# Altium schematic symbol library PBL - Capacitors.SCHLIB: 140 symbols (part 2 of 3)
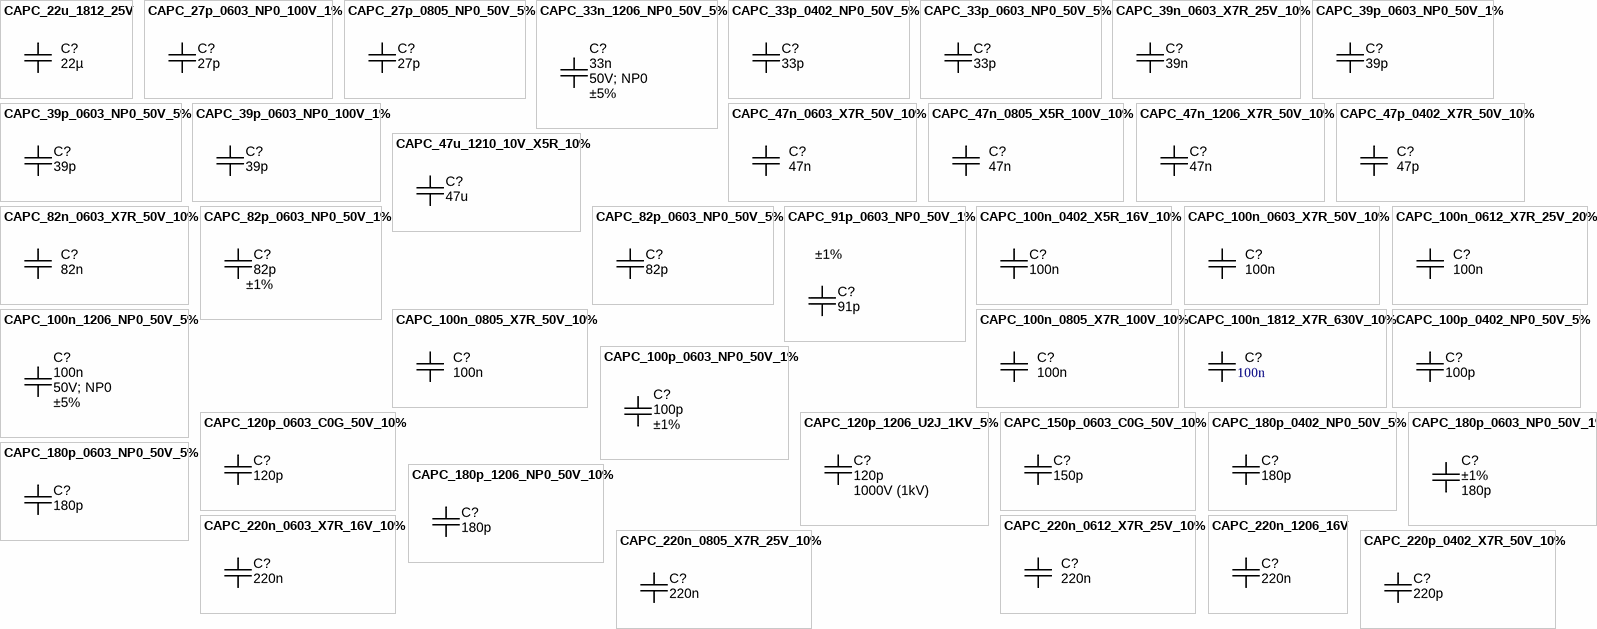
[diagram p4: symbols CAPC_22u_1812_25V to CAPC_220p_0402_X7R_50V_10%]

## CAPC_100n_0402_X5R_16V_10%
designator C?, comment 100n
Capacitor SMD Cer 100nF 10% 16V X5R 0402; Ratings: 16V; X5R; SCDType: spec; Tolerance: ±10%; Operating Temperature: -55°C ~ 125°C; Package / Case: 0402 (1005 Metric); Size / Dimension: 0.039" L x 0.020" W (1.00mm x 0.50mm); ComponentLink1URL: http://www.avx.com/docs/Catalogs/cx5r.pdf; ComponentLink1Description: http://www.avx.com/docs/Catalogs/cx5r.pdf; ComponentLink2URL: http://www.yageo.com/documents/recent/UPY-GPHC_X5R_4V-to-50V_12.pdf; ComponentLink2Description: http://www.yageo.com/documents/recent/UPY-GPHC_X5R_4V-to-50V_12.pdf; Supplier 1: Digi-Key; Supplier Part Number 1: 709-1129-1-ND; Value: 100n
footprint CAPC1005X55N (Chip Capacitor, Body 1.0x0.5mm, EIA 0402, IPC Medium Density)
pins: 1, 2

## CAPC_100n_0603_X7R_50V_10%
designator C?, comment value 100n  (hidden comment: approved sub OK)
Capacitor SMD Cer 100nF 10% 50V X7R 0603; Manufacturer: Murata Electronics North America; Manufacturer Part Number: GRM188R71H104KA93D; Tolerance: ±10%; Supplier 1: Digi-Key; Supplier Part Number 1: 490-1519-1-ND; RoHS: RoHS Compliant; Category: Capacitors; Stock 1: 21293840; Pricing 1: 1=0.12, 10=0.084, 100=0.0396, 500=0.02778, 1000=0.023 (USD); Packaging: Cut Tape (CT); Part Status: Active; Voltage - Rated: 50V; Temperature Coefficient: X7R; Operating Temperature: -55°C ~ 125°C; Features: -; Ratings: -; Applications: General Purpose; Mounting Type: Surface Mount, MLCC; Package / Case: 0603 (1608 Metric); Size / Dimension: 0.063" L x 0.031" W (1.60mm x 0.80mm); Height - Seated (Max): -; Thickness (Max): 0.035" (0.90mm); Lead Spacing: -; Lead Style: -; ComponentLink1URL: http://www.murata.com/~/media/webrenewal/support/library/catalog/products/capacitor/mlcc/c02e.pdf; ComponentLink1Description: http://www.murata.com/~/media/webrenewal/support/library/catalog/products/capacitor/mlcc/c02e.pdf
footprint CAPC1608X90N (Chip Capacitor, Body 1.6x0.8mm, 0603, IPC Medium Density)
pins: 1, 2

## CAPC_100n_0612_X7R_25V_20%
designator C?, comment value 100n  (hidden comment: approved sub OK)
Capacitor SMD Cer 100nF 20% 25V X7R 0612; Manufacturer: Murata Electronics North America; Manufacturer Part Number: LLL317R71E104MA01L; Supplier 1: Digi-Key; Supplier Part Number 1: 490-4378-1-ND; RoHS: RoHS Compliant; Category: Capacitors; Stock 1: 8336; Pricing 1: 1=0.45, 10=0.312, 100=0.1871, 500=0.1403, 1000=0.11848 (USD); Packaging: Cut Tape (CT); Part Status: Active; Tolerance: ±20%; Voltage - Rated: 25V; Temperature Coefficient: X7R; Operating Temperature: -55°C ~ 125°C; Features: Low ESL (Reverse Geometry); Ratings: -; Applications: Bypass, Decoupling; Mounting Type: Surface Mount, MLCC; Package / Case: 0612 (1632 Metric); Size / Dimension: 0.063" L x 0.126" W (1.60mm x 3.20mm); Height - Seated (Max): -; Thickness (Max): 0.032" (0.80mm); Lead Spacing: -; Lead Style: -; ComponentLink1URL: http://search.murata.co.jp/Ceramy/image/img/A01X/G101/ENG/LLL317R71E104MA01-01.pdf; ComponentLink1Description: http://search.murata.co.jp/Ceramy/image/img/A01X/G101/ENG/LLL317R71E104MA01-01.pdf
footprint CAPC1632X07N (Chip Capacitor, 0612 (1632M)  2-Leads, Body 1.60x3.20mm, IPC Medium Density)
pins: 1, 2

## CAPC_100n_0805_X7R_50V_10%
designator C?, comment value 100n  (hidden comment: approved sub OK)
Capacitor SMD Cer 100nF 10% 50V X7R 0805; Manufacturer 1: Kemet; Manufacturer Part Number 1: C0805C104K5RACTU; Ratings: 50V; X7R; Material: ceramic; SCDType: undef; Package / Case: 0805 (2012 metric); Tolerance: ±10%; Supplier 1: Digi-Key; Supplier Part Number 1: 399-1170-1-ND
footprint CAPC1608N (Chip Capacitor, Body 1.6x0.8mm, IPC Medium Density)
footprint CAPC3216N (Chip Capacitor, Body 3.2x1.6mm, IPC Medium Density)
footprint CAPC2012X135N (Chip Capacitor, Body 2.0x1.2mm, 0805, IPC Medium Density)
pins: 1, 2

## CAPC_100n_0805_X7R_100V_10%
designator C?, comment value 100n  (hidden comment: approved sub OK)
Capacitor SMD Cer 100nF 10% 100V X7R 0805; Manufacturer 1: TDK Corporation; Manufacturer Part Number 1: C2012X7R2A104K; Ratings: 100V; X7R; Material: ceramic; SCDType: undef; Package / Case: 0805; Tolerance: ±10%; Supplier 1: Digi-Key; Supplier Part Number 1: 445-1418-1-ND
footprint CAPC2012X135N (Chip Capacitor, Body 2.0x1.2mm, 0805, IPC Medium Density)
pins: 1, 2

## CAPC_100n_1206_NP0_50V_5%
designator C?, comment Tolerance: ±5%  Ratings: 50V; NP0  (hidden comment: 100n)
Capacitor SMD Cer 100nF 1206 NP0 50V 5%; Manufacturer 1: TDK Corporation; Manufacturer Part Number 1: C3216C0G1H104J160AA; SCDType: undef; Operating Temperature: -55°C ~ 125°C; Package / Case: 1206 (3216 Metric); Size / Dimension: 0.126" L x 0.063" W (3.20mm x 1.60mm); Thickness (Max): 0.075" (1.90mm); Supplier 1: Digi-Key; Supplier Part Number 1: 445-7694-1-ND; ComponentLink1URL: http://product.tdk.com/capacitor/mlcc/en/documents/mlcc_commercial_general_en.pdf; ComponentLink1Description: http://product.tdk.com/capacitor/mlcc/en/documents/mlcc_commercial_general_en.pdf; Value: 100n
footprint CAPC3216X180N (Chip Capacitor, Body 3.2x1.6mm, 1.8mm H, 1206, IPC Medium Density)
pins: 1, 2

## CAPC_100n_1812_X7R_630V_10%
designator C?, comment value 100n  (hidden comment: GRM43DR72J104KW01L)
0.1µF ±10% 630V Ceramic Capacitor X7R 1812 (4532 Metric); Manufacturer: Murata Electronics North America; Supplier 1: Digi-Key; Supplier Part Number 1: 490-3518-1-ND; RoHS: RoHS Compliant; Category: Capacitors; Stock 1: 64655; Pricing 1: 1=0.72, 10=0.531, 100=0.364, 500=0.2882 (USD); Packaging: Cut Tape (CT); Part Status: Active; Tolerance: ±10%; Voltage - Rated: 630V; Temperature Coefficient: X7R; Operating Temperature: -55°C ~ 125°C; Features: -; Ratings: -; Applications: General Purpose; Mounting Type: Surface Mount, MLCC; Package / Case: 1812 (4532 Metric); Size / Dimension: 0.177" L x 0.126" W (4.50mm x 3.20mm); Height - Seated (Max): -; Thickness (Max): 0.087" (2.20mm); Lead Spacing: -; Lead Style: -; ComponentLink1URL: http://search.murata.co.jp/Ceramy/image/img/A01X/G101/ENG/GRM43DR72J104KW01-01.pdf; ComponentLink1Description: http://search.murata.co.jp/Ceramy/image/img/A01X/G101/ENG/GRM43DR72J104KW01-01.pdf; Manufacturer Part Number: GRM43DR72J104KW01L
footprint CAPC4532X280N (Chip Capacitor, Body 4.5x3.2mm, 1812, IPC Medium Density)
pins: 1, 2

## CAPC_100p_0402_NP0_50V_5%
designator C?, comment 100p
Capacitor SMD Cer 100pF 5% 50V NP0 0402; Manufacturer 1: Yageo; Manufacturer Part Number 1: CC0402JRNPO9BN101; Ratings: 50V; NP0; SCDType: spec; Tolerance: ±5%; Operating Temperature: -55°C ~ 125°C; Package / Case: 0402 (1005 Metric); Size / Dimension: 0.039" L x 0.020" W (1.00mm x 0.50mm); Supplier 1: Digi-Key; Supplier Part Number 1: 311-1024-1-ND; RoHS 1: RoHS Compliant; ComponentLink1URL: http://www.yageo.com/documents/recent/UPY-GP_NP0_16V-to-50V_9.pdf; ComponentLink1Description: http://www.yageo.com/documents/recent/UPY-GP_NP0_16V-to-50V_9.pdf; Supplier 2: Digi-Key; Supplier Part Number 2: 1276-1025-1-ND; Manufacturer 2: Samsung Electro-Mechanics America, Inc; Manufacturer Part Number 2: CL05C101JB5NNNC; RoHS 2: RoHS Compliant; ComponentLink2URL: http://www.samsungsem.com/servlet/FileDownload?type=spec&file=CL05C101JB5NNNC.pdf; ComponentLink2Description: http://www.samsungsem.com/servlet/FileDownload?type=spec&file=CL05C101JB5NNNC.pdf; Supplier 3: Digi-Key; Supplier Part Number 3: 445-1247-1-ND; Manufacturer 3: TDK Corporation; Manufacturer Part Number 3: C1005C0G1H101J050BA; RoHS 3: RoHS Compliant; ComponentLink3URL: http://product.tdk.com/capacitor/mlcc/en/documents/mlcc_commercial_general_en.pdf; ComponentLink3Description: http://product.tdk.com/capacitor/mlcc/en/documents/mlcc_commercial_general_en.pdf; Supplier 4: Digi-Key; Supplier Part Number 4: 399-3194-1-ND; Manufacturer 4: Kemet; Manufacturer Part Number 4: C0402C101J5GACTU; RoHS 4: RoHS Compliant; ComponentLink4URL: http://www.kemet.com/datasheets&C0402C101J5GACTU; ComponentLink4Description: http://www.kemet.com/datasheets&C0402C101J5GACTU; Value: 100p
footprint CAPC1005X55N (Chip Capacitor, Body 1.0x0.5mm, 0402, IPC Medium Density)
pins: 1, 2

## CAPC_100p_0603_NP0_50V_1%
designator C?, comment Tolerance: ±1%  (hidden comment: 100p)
Capacitor SMD Cer 100pF 1% 50V NP0 0603; Manufacturer 1: AVX Corporation; Manufacturer Part Number 1: 06035A101FAT2A; Ratings: 50V; NP0; SCDType: source; Operating Temperature: -55°C ~ 125°C; Package / Case: 0603 (1608 Metric); Size / Dimension: 0.063" L x 0.032" W (1.60mm x 0.81mm); Thickness (Max): 0.035" (0.90mm); ComponentLink1URL: http://www.avx.com/docs/Catalogs/ccog.pdf; ComponentLink1Description: http://www.avx.com/docs/Catalogs/ccog.pdf; Supplier 1: Digi-Key; Supplier Part Number 1: 478-6202-1-ND; Supplier 2: Digi-Key; Supplier Part Number 2: 1276-2159-1-ND; Manufacturer 2: Samsung Electro-Mechanics America, Inc; Manufacturer Part Number 2: CL10C101FB8NNNC; RoHS 2: RoHS Compliant; ComponentLink2URL: http://www.samsungsem.com/servlet/FileDownload?type=spec&file=CL10C101FB8NNNC.pdf; ComponentLink2Description: http://www.samsungsem.com/servlet/FileDownload?type=spec&file=CL10C101FB8NNNC.pdf; RoHS 1: RoHS Compliant; Supplier 3: Digi-Key; Supplier Part Number 3: 399-7819-1-ND; Manufacturer 3: Kemet; Manufacturer Part Number 3: C0603C101F5GACTU; RoHS 3: RoHS Compliant; ComponentLink3URL: http://www.kemet.com/datasheets&C0603C101F5GACTU; ComponentLink3Description: http://www.kemet.com/datasheets&C0603C101F5GACTU; Value: 100p
footprint CAPC1608X90N (Chip Capacitor, Body 1.6x0.8mm, 0603, IPC Medium Density)
pins: 1, 2

## CAPC_120p_0603_C0G_50V_10%
designator C?, comment 120p
Capacitor SMD Cer 120pF 10% 50V NP0 0603; Manufacturer 1: Kemet; Manufacturer Part Number 1: C0603C121K5GACTU; Ratings: 50V; NP0; SCDType: spec; Tolerance: ±10%; Operating Temperature: -55°C ~ 125°C; Package / Case: 0603 (1608 Metric); Supplier 1: Mouser; Supplier Part Number 1: 80-C0603C121K5G; Value: 120p
footprint CAPC1608X90N (Chip Capacitor, Body 1.6x0.8mm, 0603, IPC Medium Density)
pins: 1, 2

## CAPC_120p_1206_U2J_1KV_5%
designator C?, comment Voltage - Rated: 1000V (1kV)  (hidden comment: 120p)
Capacitor SMD Cer 120pF 5% U2J 1KV 1206; Manufacturer: Murata Electronics North America; Manufacturer Part Number: GRM31A7U3A121JW31D; Tolerance: ±5%; Supplier 1: Digi-Key; Supplier Part Number 1: 490-8331-1-ND; RoHS: RoHS Compliant; Category: Capacitors; Stock 1: 3961; Pricing 1: 1=0.48, 10=0.336, 100=0.2015, 500=0.15114, 1000=0.12764 (USD); Packaging: Cut Tape (CT); Part Status: Active; Temperature Coefficient: U2J; Operating Temperature: -55°C ~ 125°C; Features: -; Ratings: -; Applications: General Purpose; Mounting Type: Surface Mount, MLCC; Package / Case: 1206 (3216 Metric); Size / Dimension: 0.126" L x 0.063" W (3.20mm x 1.60mm); Height - Seated (Max): -; Thickness (Max): 0.039" (1.00mm); Lead Spacing: -; Lead Style: -; ComponentLink1URL: http://search.murata.co.jp/Ceramy/image/img/A01X/G101/ENG/GRM31A7U3A121JW31-01.pdf; ComponentLink1Description: http://search.murata.co.jp/Ceramy/image/img/A01X/G101/ENG/GRM31A7U3A121JW31-01.pdf; Value: 120p
footprint CAPC3216X180N (Chip Capacitor, Body 3.2x1.6mm, 1.8mm H, 1206, IPC Medium Density)
pins: 1, 2

## CAPC_150p_0603_C0G_50V_10%
designator C?, comment 150p
Capacitor SMD Cer 150pF 10% 50V C0G 0603; Manufacturer 1: Kemet; Manufacturer Part Number 1: C0603C151K5GACTU; Ratings: 50V; C0G; SCDType: spec; Tolerance: ±10%; Operating Temperature: -55°C ~ 125°C; Package / Case: 0603 (1608 Metric); Supplier 1: Mouser; Supplier Part Number 1: 80-C0603C151K5G; Value: 150p
footprint CAPC1608X90N (Chip Capacitor, Body 1.6x0.8mm, 0603, IPC Medium Density)
pins: 1, 2

## CAPC_180p_0402_NP0_50V_5%
designator C?, comment 180p
Capacitor SMD Cer 180pF 5% 50V NP0 0402; Manufacturer 1: AVX Corporation; Manufacturer Part Number 1: 04025A181JAT2A; Ratings: 50V; NP0; SCDType: spec; Tolerance: ±5%; Operating Temperature: -55°C ~ 125°C; Package / Case: 0402 (1005 Metric); Size / Dimension: 0.039" L x 0.020" W (1.00mm x 0.50mm); Manufacturer 2: Murata Electronics North America; Manufacturer Part Number 2: GRM1555C1H181JA01D; Supplier 1: Digi-Key; Supplier Part Number 1: 478-1085-1-ND; ComponentLink1URL: http://www.avx.com/docs/Catalogs/ccog.pdf; ComponentLink1Description: http://www.avx.com/docs/Catalogs/ccog.pdf; Supplier 2: Digi-Key; Supplier Part Number 2: 490-3231-1-ND; ComponentLink2URL: http://psearch.murata.com/capacitor/product/GRM1555C1H181JA01#.pdf; ComponentLink2Description: http://psearch.murata.com/capacitor/product/GRM1555C1H181JA01#.pdf; Value: 180p
footprint CAPC1005X55N (Chip Capacitor, Body 1.0x0.5mm, 0402, IPC Medium Density)
pins: 1, 2

## CAPC_180p_0603_NP0_50V_1%
designator C?, comment Tolerance: ±1%  (hidden comment: 180p)
Capacitor SMD Cer 180pF 1% 50V NP0 0603; Manufacturer 1: AVX Corporation; Manufacturer Part Number 1: 06035A181FAT2A; Ratings: 50V; NP0; SCDType: source; Operating Temperature: -55°C ~ 125°C; Package / Case: 0603 (1608 Metric); Size / Dimension: 0.063" L x 0.031" W (1.60mm x 0.80mm); Supplier 1: Digi-Key; Supplier Part Number 1: 478-6029-1-ND; ComponentLink1URL: http://www.avx.com/docs/Catalogs/ccog.pdf; ComponentLink1Description: http://www.avx.com/docs/Catalogs/ccog.pdf; Supplier 2: Digi-Key; Supplier Part Number 2: 1276-2211-1-ND; Manufacturer 2: Samsung Electro-Mechanics America, Inc; Manufacturer Part Number 2: CL10C181FB8NNNC; RoHS 2: RoHS Compliant; ComponentLink2URL: http://www.samsungsem.com/servlet/FileDownload?type=spec&file=CL10C181FB8NNNC.pdf; ComponentLink2Description: http://www.samsungsem.com/servlet/FileDownload?type=spec&file=CL10C181FB8NNNC.pdf; Supplier 3: Digi-Key; Supplier Part Number 3: C0603C181F5GACTU-ND; Manufacturer 3: Kemet; Manufacturer Part Number 3: C0603C181F5GACTU; RoHS 3: RoHS Compliant; ComponentLink3URL: http://www.kemet.com/datasheets&C0603C181F5GACTU; ComponentLink3Description: http://www.kemet.com/datasheets&C0603C181F5GACTU; Value: 180p
footprint CAPC1608X90N (Chip Capacitor, Body 1.6x0.8mm, 0603, IPC Medium Density)
pins: 1, 2

## CAPC_180p_0603_NP0_50V_5%
designator C?, comment 180p
Capacitor SMD Cer 180pF 5% 50V NP0 0603; Manufacturer 1: Yageo; Manufacturer Part Number 1: CC0603JRNPO9BN181; Ratings: 50V; C0G; SCDType: undef; Tolerance: ±5%; Operating Temperature: -55°C ~ 125°C; Package / Case: 0603 (1608 Metric); Supplier 1: Digi-Key; Supplier Part Number 1: 311-1072-1-ND; ComponentLink1URL: http://www.yageo.com/documents/recent/UPY-GP_NP0_16V-to-50V_8.pdf; ComponentLink1Description: Datasheet; Size / Dimension: 0.063" L x 0.031" W (1.60mm x 0.80mm); Value: 180p
footprint CAPC1608X90N (Chip Capacitor, Body 1.6x0.8mm, 0603, IPC Medium Density)
pins: 1, 2

## CAPC_180p_1206_NP0_50V_10%
designator C?, comment 180p
Capacitor SMD Cer 180pF 10% 50V NP0 1206; Manufacturer 1: Kemet; Manufacturer Part Number 1: C1206C181K5GACTU; Ratings: 50V; NP0; SCDType: spec; Tolerance: ±10%; Operating Temperature: -55°C ~ 125°C; Package / Case: 1206 (3216 Metric); Supplier 1: Digi-Key; Supplier Part Number 1: C1206C181K5GACTU-ND; Value: 180p
footprint CAPC3216X180N (Chip Capacitor, Body 3.2x1.6mm, 1.8mm H, 1206, IPC Medium Density)
pins: 1, 2

## CAPC_220n_0603_X7R_16V_10%
designator C?, comment value 220n  (hidden comment: approved sub OK)
Capacitor SMD Cer 220nF 10% 16V X7R 0603; Manufacturer 1: TDK Corporation; Manufacturer Part Number 1: C1608X7R1C224K; Ratings: 16V; X7R; SCDType: undef; Tolerance: ±10%; Package / Case: 0603 (1608 metric); Supplier 1: Digi-Key; Supplier Part Number 1: 445-1318-1-ND
footprint CAPC1608X90N (Chip Capacitor, Body 1.6x0.8mm, 0603, IPC Medium Density)
pins: 1, 2

## CAPC_220n_0612_X7R_25V_10%
designator C?, comment value 220n  (hidden comment: approved sub OK)
Capacitor SMD Cer 220nF 10% 25V X7R 0612; Manufacturer: AVX Corporation; Manufacturer Part Number: 06123C224KAT2A; Tolerance: ±20%; Voltage - Rated: 25V; Supplier 1: Digi-Key; Supplier Part Number 1: 478-2902-1-ND; RoHS: RoHS Compliant; Category: Capacitors; Stock 1: 3680; Pricing 1: 1=1.73, 10=1.366, 100=1.0247, 500=0.77418, 1000=0.6831 (USD); Packaging: Cut Tape (CT); Part Status: Active; Temperature Coefficient: X7R; Operating Temperature: -55°C ~ 125°C; Features: Low ESL (Reverse Geometry); Ratings: -; Applications: Bypass, Decoupling; Mounting Type: Surface Mount, MLCC; Package / Case: 0612 (1632 Metric); Size / Dimension: 0.063" L x 0.126" W (1.60mm x 3.20mm); Height - Seated (Max): -; Thickness (Max): 0.050" (1.27mm); Lead Spacing: -; Lead Style: -; ComponentLink1URL: http://datasheets.avx.com/licc.pdf; ComponentLink1Description: http://datasheets.avx.com/licc.pdf
footprint CAPC1632X07N (Chip Capacitor, 0612 (1632M)  2-Leads, Body 1.60x3.20mm, IPC Medium Density)
pins: 1, 2

## CAPC_220n_0805_X7R_25V_10%
designator C?, comment value 220n  (hidden comment: approved sub OK)
Capacitor SMD Cer 220nF 10% 25V X7R 0805; Manufacturer 1: Murata Electronics North America; Manufacturer Part Number 1: GRM219R71E224KA01D; Ratings: 25V; X7R; SCDType: undef; Tolerance: ±10%; Package / Case: 0805 (2012 metric); Supplier 1: Digi-Key; Supplier Part Number 1: 490-1675-1-ND
footprint CAPC2012X135N (Chip Capacitor, Body 2.0x1.2mm, 0805, IPC Medium Density)
pins: 1, 2

## CAPC_220n_1206_16V
designator C?, comment value 220n  (hidden comment: approved sub OK)
Capacitor SMD Cer 220nF 10% 16V X7R 1206; Manufacturer 1: Murata; Manufacturer Part Number 1: GRM319R71C224KA01D; Ratings: 16V; X7R; SCDType: spec; Tolerance: ±10%; Package / Case: 1206 (3216 metric); Supplier 1: Mouser; Supplier Part Number 1: 81-GRM426X224K016D
footprint CAPC3216X180N (Chip Capacitor, Body 3.2x1.6mm, 1.8mm H, 1206, IPC Medium Density)
pins: 1, 2

## CAPC_220p_0402_X7R_50V_10%
designator C?, comment value 220p  (hidden comment: approved sub OK)
Capacitor SMD Cer 220pF 10% 0402 X7R 50V; Manufacturer 1: TDK Corporation; Manufacturer Part Number 1: C1005X7R1H221K050BA; Ratings: 50V; X7R; SCDType: undef; Tolerance: ±10%; Operating Temperature: -55°C ~ 125°C; Package / Case: 0402 (1005 Metric); Supplier 1: Digi-Key; Supplier Part Number 1: 445-1254-1-ND; ComponentLink1URL: http://product.tdk.com/capacitor/mlcc/en/documents/mlcc_commercial_general_en.pdf; ComponentLink1Description: http://product.tdk.com/capacitor/mlcc/en/documents/mlcc_commercial_general_en.pdf
footprint CAPC1005X55N (Chip Capacitor, Body 1.0x0.5mm, 0402, IPC Medium Density)
pins: 1, 2

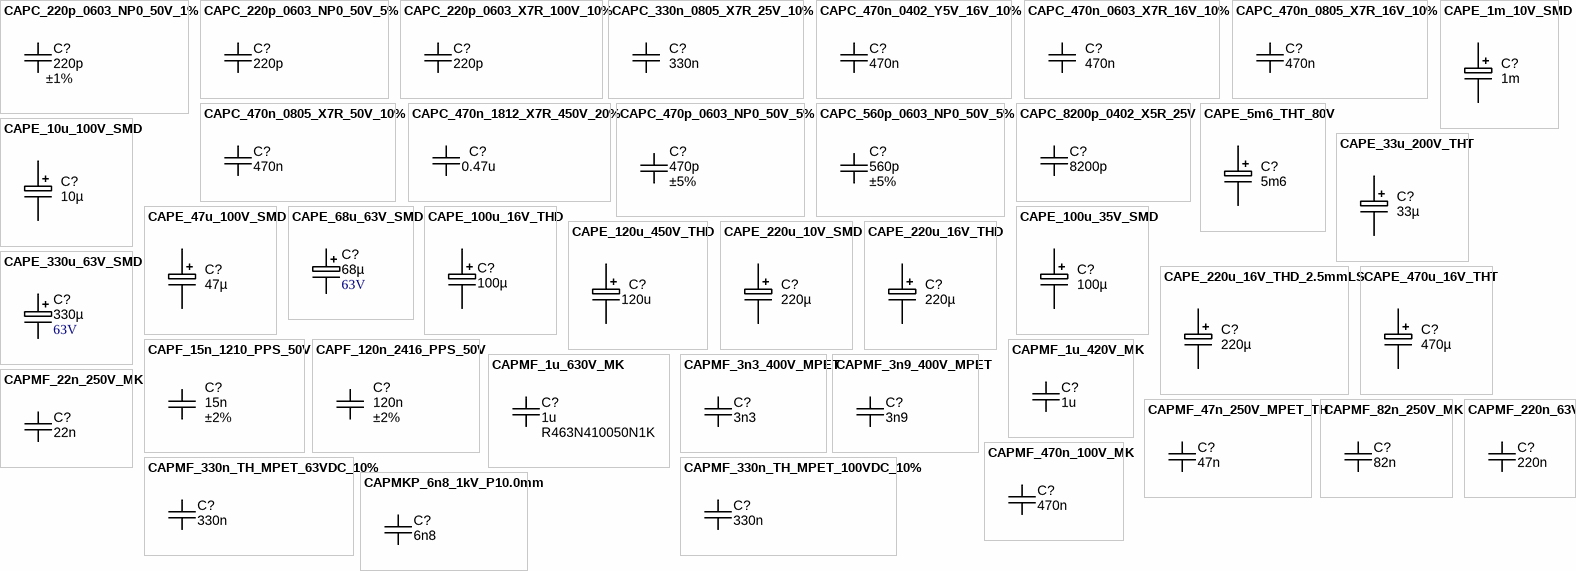
[diagram p2: symbols CAPC_220p_0603_NP0_50V_1% to CAPMKP_6n8_1kV_P10.0mm]

## CAPC_220p_0603_NP0_50V_1%
designator C?, comment Tolerance: ±1%  (hidden comment: 220p)
Capacitor SMD Cer 220pF 1% 50V NP0 0603; Manufacturer 1: AVX Corporation; Manufacturer Part Number 1: 06035A221FAT2A; Ratings: 50V; NP0; SCDType: spec; Operating Temperature: -55°C ~ 125°C; Package / Case: 0603 (1608 Metric); Size / Dimension: 0.063" L x 0.031" W (1.60mm x 0.80mm); Thickness (Max): 0.037" (0.95mm); Manufacturer 2: TDK Corporation; Manufacturer Part Number 2: C1608C0G1H221F080AA; Supplier 1: Digi-Key; Supplier Part Number 1: 478-3719-1-ND; ComponentLink1URL: http://www.avx.com/docs/Catalogs/ccog.pdf; ComponentLink1Description: http://www.avx.com/docs/Catalogs/ccog.pdf; Supplier 2: Digi-Key; Supplier Part Number 2: 445-5369-1-ND; ComponentLink2URL: http://www.tdk.com/pdf/tight_tol_B11.pdf; ComponentLink2Description: http://www.tdk.com/pdf/tight_tol_B11.pdf; Supplier 3: Digi-Key; Supplier Part Number 3: 399-7876-1-ND; Manufacturer 3: Kemet; Manufacturer Part Number 3: C0603C221F5GACTU; ComponentLink3URL: http://www.kemet.com/datasheets&C0603C221F5GACTU; ComponentLink3Description: http://www.kemet.com/datasheets&C0603C221F5GACTU; Value: 220p
footprint CAPC1608X90N (Chip Capacitor, Body 1.6x0.8mm, 0603, IPC Medium Density)
pins: 1, 2

## CAPC_220p_0603_NP0_50V_5%
designator C?, comment 220p
Capacitor SMD Cer 220pF 5% 50V NP0 0603; Manufacturer 1: Murata Electronics North America; Manufacturer Part Number 1: GRM1885C1H221JA01D; Ratings: 50V; NP0; Material: Ceramic NP0; SCDType: spec; Tolerance: ±5%; Package / Case: 0603 (1608 metric); Supplier 1: Digi-Key; Supplier Part Number 1: 490-1435-1-ND; Value: 220p
footprint CAPC1608X90N (Chip Capacitor, Body 1.6x0.8mm, 0603, IPC Medium Density)
pins: 1, 2

## CAPC_220p_0603_X7R_100V_10%
designator C?, comment value 220p  (hidden comment: approved sub OK)
Capacitor SMD Cer 220pF 10% 0603 X7R 100V; Manufacturer 1: AVX Corporation; Manufacturer Part Number 1: 06031C221KAT2A; Ratings: 100V; X7R; SCDType: undef; Tolerance: ±10%; Operating Temperature: -55°C ~ 125°C; Package / Case: 0603 (1608 metric); Supplier 1: Digi-Key; Supplier Part Number 1: 478-1195-1-ND; ComponentLink1URL: http://www.avx.com/docs/Catalogs/cx7r.pdf; ComponentLink1Description: http://www.avx.com/docs/Catalogs/cx7r.pdf
footprint CAPC1608X90N (Chip Capacitor, Body 1.6x0.8mm, 0603, IPC Medium Density)
pins: 1, 2

## CAPC_330n_0805_X7R_25V_10%
designator C?, comment value 330n  (hidden comment: approved sub OK)
Capacitor SMD Cer 330nF 10% 25V X7R 0805; Manufacturer: Murata Electronics North America; Manufacturer Part Number: GRM21BR71E334KA01L; Supplier 1: Digi-Key; Supplier Part Number 1: 490-1677-1-ND; RoHS: RoHS Compliant; Category: Capacitors; Stock 1: 92549; Pricing 1: 1=0.36, 10=0.253, 100=0.1518, 500=0.11386, 1000=0.09614 (USD); Packaging: Cut Tape (CT); Part Status: Active; Tolerance: ±10%; Voltage - Rated: 25V; Temperature Coefficient: X7R; Operating Temperature: -55°C ~ 125°C; Features: -; Ratings: -; Applications: General Purpose; Mounting Type: Surface Mount, MLCC; Package / Case: 0805 (2012 Metric); Size / Dimension: 0.079" L x 0.049" W (2.00mm x 1.25mm); Height - Seated (Max): -; Thickness (Max): 0.053" (1.35mm); Lead Spacing: -; Lead Style: -; ComponentLink1URL: http://search.murata.co.jp/Ceramy/image/img/A01X/G101/ENG/GRM21BR71E334KA01-01.pdf; ComponentLink1Description: http://search.murata.co.jp/Ceramy/image/img/A01X/G101/ENG/GRM21BR71E334KA01-01.pdf
footprint CAPC2012X135N (Chip Capacitor, Body 2.0x1.2mm, 0805, IPC Medium Density)
pins: 1, 2

## CAPC_470n_0402_Y5V_16V_10%
designator C?, comment 470n
Capacitor SMD Cer 470nF -20% +80% 16V Y5V 0402; Manufacturer 1: Murata Electronics North America; Manufacturer Part Number 1: GRM155F51C474ZA01D; Tolerance: ±10%; Ratings: 16V; Y5V; SCDType: spec; Operating Temperature: -55°C ~ 125°C; Package / Case: 0402 (1005 Metric); Size / Dimension: 0.039" L x 0.020" W (1.00mm x 0.50mm); Supplier 1: Digi-Key; Supplier Part Number 1: 490-3274-1-ND; ComponentLink1URL: http://psearch.murata.com/capacitor/product/GRM155F51C474ZA01#.pdf; ComponentLink1Description: http://psearch.murata.com/capacitor/product/GRM155F51C474ZA01#.pdf; Value: 470n
footprint CAPC1005X55N (Chip Capacitor, Body 1.0x0.5mm, 0402, IPC Medium Density)
pins: 1, 2

## CAPC_470n_0603_X7R_16V_10%
designator C?, comment 470n
Capacitor SMD Cer 470nF 10% 16V X7R 0603; Manufacturer 1: Murata Electronics North America; Manufacturer Part Number 1: GRM188R71C474KA88D; Ratings: 16V; X7R; Material: ceramic; SCDType: spec; Package / Case: 0603 (1608 metric); Tolerance: ±10%; Manufacturer 2: TDK Corporation; Manufacturer Part Number 2: C1608X7R1C474K; Supplier 1: Digi-Key; Supplier Part Number 1: 490-3295-2-ND; Supplier 2: Digi-Key; Supplier Part Number 2: 445-5192-2-ND; Supplier 3: Digi-Key; Supplier Part Number 3: 587-1250-2-ND; Manufacturer 3: Taiyo Yuden; Manufacturer Part Number 3: EMK107B7474KA-T; Manufacturer 4: Samsung; Manufacturer Part Number 4: CL10B474KONE; ComponentLink1URL: http://psearch.murata.com/capacitor/product/GRM188R71C474KA88#.pdf; ComponentLink1Description: http://psearch.murata.com/capacitor/product/GRM188R71C474KA88#.pdf; ComponentLink2URL: http://product.tdk.com/capacitor/mlcc/en/documents/mlcc_commercial_general_en.pdf; ComponentLink2Description: http://product.tdk.com/capacitor/mlcc/en/documents/mlcc_commercial_general_en.pdf; ComponentLink3URL: http://www.yuden.co.jp/or/product/category/capacitor/EMK107B7474KA-T.pdf; ComponentLink3Description: http://www.yuden.co.jp/or/product/category/capacitor/EMK107B7474KA-T.pdf; Value: 470n
footprint CAPC1608X90N (Chip Capacitor, Body 1.6x0.8mm, 0603, IPC Medium Density)
pins: 1, 2

## CAPC_470n_0805_X7R_16V_10%
designator C?, comment value 470n  (hidden comment: approved sub OK)
Capacitor SMD Cer 470nF 10% 16V X7R 0805; Manufacturer 1: AVX Corporation; Manufacturer Part Number 1: 0805YC474KAT2A; Ratings: 16V; X7R; SCDType: undef; Supplier 1: Digi-Key; Supplier Part Number 1: 478-1403-1-ND; Tolerance: ±10%; Operating Temperature: -55°C ~ 125°C; Package / Case: 0805 (2012 metric)
footprint CAPC2012X135N (Chip Capacitor, Body 2.0x1.2mm, 0805, IPC Medium Density)
pins: 1, 2

## CAPC_470n_0805_X7R_50V_10%
designator C?, comment value 470n  (hidden comment: approved sub OK)
0.47µF ±10% 50V Ceramic Capacitor X7R 0805 (2012 Metric); Manufacturer: Murata Electronics North America; Manufacturer Part Number: GRM21BR71H474KA88K; Supplier 1: Digi-Key; Supplier Part Number 1: 490-8319-1-ND; RoHS: RoHS Compliant; Category: Capacitors; Stock 1: 76560; Pricing 1: 1=0.35, 10=0.244, 100=0.1465, 500=0.10986, 1000=0.09278, 2500=0.08789, 5000=0.08301 (USD); Packaging: Cut Tape (CT); Part Status: Active; Tolerance: ±10%; Voltage - Rated: 50V; Temperature Coefficient: X7R; Operating Temperature: -55°C ~ 125°C; Features: -; Ratings: -; Applications: General Purpose; Mounting Type: Surface Mount, MLCC; Package / Case: 0805 (2012 Metric); Size / Dimension: 0.079" L x 0.049" W (2.00mm x 1.25mm); Height - Seated (Max): -; Thickness (Max): 0.053" (1.35mm); Lead Spacing: -; Lead Style: -; ComponentLink1URL: http://search.murata.co.jp/Ceramy/image/img/A01X/G101/ENG/GRM21BR71H474KA88-01.pdf; ComponentLink1Description: http://search.murata.co.jp/Ceramy/image/img/A01X/G101/ENG/GRM21BR71H474KA88-01.pdf
footprint CAPC2012X135N (Chip Capacitor, Body 2.0x1.2mm, 0805, IPC Medium Density)
pins: 1, 2

## CAPC_470n_1812_X7R_450V_20%
designator C?, comment value 0.47u  (hidden comment: C4532X7T2W474M230KA)
0.47µF ±20% 450V Ceramic Capacitor X7T 1812 (4532 Metric); Manufacturer: TDK Corporation; Supplier 1: Digi-Key; Supplier Part Number 1: 445-13461-1-ND; RoHS: RoHS Compliant; Category: Capacitors; Stock 1: 640; Pricing 1: 1=1.28, 10=1.009, 100=0.7571 (USD); Packaging: Cut Tape (CT); Part Status: Active; Tolerance: ±20%; Voltage - Rated: 450V; Temperature Coefficient: X7T; Operating Temperature: -55°C ~ 125°C; Features: -; Ratings: -; Applications: General Purpose; Failure Rate: -; Mounting Type: Surface Mount, MLCC; Package / Case: 1812 (4532 Metric); Size / Dimension: 0.177" L x 0.126" W (4.50mm x 3.20mm); Height - Seated (Max): -; Thickness (Max): 0.098" (2.50mm); Lead Spacing: -; Lead Style: -; ComponentLink1URL: https://product.tdk.com/info/en/catalog/datasheets/mlcc_commercial_midvoltage_en.pdf; ComponentLink1Description: https://product.tdk.com/info/en/catalog/datasheets/mlcc_commercial_midvoltage_en.pdf; Manufacturer Part Number: C4532X7T2W474M230KA
footprint CAPC4532X280N (Chip Capacitor, Body 4.5x3.2mm, 1812, IPC Medium Density)
pins: 1, 2

## CAPC_470p_0603_NP0_50V_5%
designator C?, comment value 470p  Tolerance: ±5%  (hidden comment: approved sub OK)
Capacitor SMD Cer 470pF 5% 50V NP0 0603; Manufacturer 1: AVX Corporation; Manufacturer Part Number 1: 06035A471JAT2A; Ratings: 50V; NP0; Material: ceramic; SCDType: spec; Package / Case: 0603 (1608 metric); Supplier 1: Digi-Key; Supplier Part Number 1: 478-1183-1-ND; Capacitance: 470pF; Voltage - Rated: 50V; Mounting Type: Surface Mount, MLCC; Operating Temperature: -55°C ~ 125°C; Applications: General Purpose; Size / Dimension: 0.063" L x 0.032" W (1.60mm x 0.81mm); Height - Seated (Max): -; Thickness (Max): 0.035" (0.90mm); Lead Spacing: -; Lead Style: -; ComponentLink1URL: http://www.avx.com/docs/Catalogs/ccog.pdf; ComponentLink1Description: http://www.avx.com/docs/Catalogs/ccog.pdf
footprint CAPC1608X90N (Chip Capacitor, Body 1.6x0.8mm, 0603, IPC Medium Density)
pins: 1, 2

## CAPC_560p_0603_NP0_50V_5%
designator C?, comment value 560p  Tolerance: ±5%  (hidden comment: approved sub OK)
Capacitor SMD Cer 560pF 5% 50V NP0 0603; Manufacturer 1: AVX Corporation; Manufacturer Part Number 1: 06035A561JAT2A; Ratings: 50V; NP0; Material: ceramic; Capacitance: 470pF; SCDType: spec; Package / Case: 0603 (1608 metric); Voltage - Rated: 50V; Mounting Type: Surface Mount, MLCC; Operating Temperature: -55°C ~ 125°C; Applications: General Purpose; Size / Dimension: 0.063" L x 0.032" W (1.60mm x 0.81mm); Height - Seated (Max): -; Thickness (Max): 0.035" (0.90mm); Lead Spacing: -; Lead Style: -; ComponentLink1URL: http://www.avx.com/docs/Catalogs/ccog.pdf; ComponentLink1Description: http://www.avx.com/docs/Catalogs/ccog.pdf; Supplier 1: Digi-Key; Supplier Part Number 1: 478-1184-1-ND
footprint CAPC1608X90N (Chip Capacitor, Body 1.6x0.8mm, 0603, IPC Medium Density)
pins: 1, 2

## CAPC_8200p_0402_X5R_25V
designator C?, comment value 8200p  (hidden comment: 8200PF 0402)
8200Pf 25V; Thickness (Max): 0.034" (0.87mm); Supplier 1: Digi-Key; Supplier Part Number 1: 490-1311-1-ND
footprint CAPC1608X90N (Chip Capacitor, Body 1.6x0.8mm, 0603, IPC Medium Density)
pins: 1, 2

## CAPE_1m_10V_SMD
designator C?, comment 1m
Capacitor SMD Alum Elec 1mF 20% 10V; Manufacturer 1: Panasonic - ECG; Manufacturer Part Number 1: EEE-FK1A102P; Ratings: 10V; 105°C; Material: Al; Impedance: 80 mOhm; SCDType: spec; Package / Case: Radial - Surface Mount; Tolerance: ±20%; Supplier 1: Digi-Key; Supplier Part Number 1: PCE3772CT-ND; Height - Seated (Max): 0.402" (10.20mm); Size / Dimension: 0.394" Dia (10.00mm); Value: 1m
footprint CAP_ELEC_Size G (Capacitor, polarized, aluminum can; 10.0x10.2mm DxH)
pins: 1, 2

## CAPE_5m6_THT_80V
designator C?, comment 5m6
Capacitor THT Electrolytic 5600uF 20% 80V; Manufacturer 1: Panasonic - ECG; Manufacturer Part Number 1: ECO-S1KP562DA; Material: Aluminum Electrolytic; SCDType: undef; Package / Case: 30.00mm Dia x 45.00mm H; Ratings: 80V; Tolerance: ±20%; Supplier 1: Digi-Key; Supplier Part Number 1: P7374-ND; Value: 5m6
footprint CAPE10.0MM_Rad_30x45mm (Footprint not found)
pins: 1, 2

## CAPE_10u_100V_SMD
designator C?, comment 10µ
Capacitor SMD Electrolytic 10uF 20% 100V Radial; Manufacturer: Panasonic - ECG; Manufacturer Part Number: EEE-2AA100UP; Material: Aluminum Electrolytic; SCDType: spec; Package / Case: Radial - Surface Mount; Ratings: 100V; Tolerance: ±20%; Supplier 1: Digi-Key; Supplier Part Number 1: PCE3966CT-ND; Value: 10µ
footprint CAP_ELEC_Size E (Capacitor, polarized, aluminum can; 8.0x6.2mm DxH)
pins: 1, 2

## CAPE_33u_200V_THT
designator C?, comment 33µ
Capacitor THT Alum Elec 33uF 20% 200V; Manufacturer 1: Panasonic - ECG; Manufacturer Part Number 1: EEU-ED2D330; Ratings: 200V; 105°C; Material: Al; SCDType: undef; Package / Case: Radial; Tolerance: ±20%; Supplier 1: Digi-Key; Supplier Part Number 1: P13523-ND; Value: 33µ
footprint CAPE5.0mm
pins: 1, 2

## CAPE_47u_100V_SMD
designator C?, comment 47µ
Capacitor SMD Electrolytic 47uF 20% 100V Radial; Manufacturer 1: Panasonic - ECG; Manufacturer Part Number 1: EEV-TG2A470Q; Material: Aluminum Electrolytic; SCDType: undef; Package / Case: Radial - Surface Mount; Ratings: 100V; Tolerance: ±20%; Supplier 1: Digi-Key; Supplier Part Number 1: PCE3701CT-ND; Value: 47µ
footprint CAP_ELEC_Size H13 (Capacitor, polarized, aluminum can; 12.5x13.5mm DxH)
pins: 1, 2

## CAPE_68u_63V_SMD
designator C?, comment value 68µ  Voltage Rating: 63V  (hidden comment: EEE-FK1J680UP)
68µF 63V Aluminum Electrolytic Capacitors Radial, Can - SMD  2000 Hrs @ 105°C; Manufacturer: Panasonic; Capacitance: 68uF; Ripple Current: 250mA; Tolerance: 20%; Impedance: 650mR; Life (Hours): 2000Hour; Leakage Current: 3uA; Lead Diameter: 0.9mm; ComponentLink1URL: http://www.kemet.com/datasheets&T520D337M006ATE015; ComponentLink1Description: T520D Datasheet; Voltage Rating (DC): 63V; ComponentLink2URL: https://datasheet.ciiva.com/5364/e-ug-16273-5364903.pdf; ComponentLink2Description: https://datasheet.ciiva.com/5364/e-ug-16273-5364903.pdf; ComponentLink3URL: https://datasheet.ciiva.com/6316/e-ug-6316172.pdf; ComponentLink3Description: https://datasheet.ciiva.com/6316/e-ug-6316172.pdf; ComponentLink4URL: https://datasheet.ciiva.com/6316/e-ug-6316173.pdf; ComponentLink4Description: https://datasheet.ciiva.com/6316/e-ug-6316173.pdf; ComponentLink5URL: https://datasheet.ciiva.com/6316/e-ug-6316174.pdf; ComponentLink5Description: https://datasheet.ciiva.com/6316/e-ug-6316174.pdf; Supplier 1: Digi-Key; Supplier Part Number 1: PCE4307DKR-ND; Stock 1: 33095; Pricing 1: 1=0.75, 10=0.555, 100=0.3805 (USD); Mount: Surface Mount,PCB; Case/Package: Radial; Contact Plating: Tin; Min Operating Temperature: -55°C; Max Operating Temperature: 105°C; Packaging: Tape and Reel; Ripple Current (AC): 250mA; Package Quantity: 1; ESR (Equivalent Series Resistance): 650mR; Termination: SMD/SMT; Voltage: 63V; Diameter: 8mm; Length: 10.2mm; Height: 10.2mm; Lead Pitch: 3.1mm; Height - Seated (Max): 0.402inch; Width: 12mm; Radiation Hardening: No; REACH SVHC: No SVHC; Lead Free: Lead Free; ComponentLink6URL: https://datasheet.ciiva.com/11777/0900766b80e4e8b0-11777395.pdf; ComponentLink6Description: https://datasheet.ciiva.com/11777/0900766b80e4e8b0-11777395.pdf; ComponentLink7URL: https://datasheet.ciiva.com/16432/aba0000ce120-16432917.pdf; ComponentLink7Description: https://datasheet.ciiva.com/16432/aba0000ce120-16432917.pdf; ComponentLink8URL: https://datasheet.ciiva.com/28671/731857-28671493.pdf; ComponentLink8Description: https://datasheet.ciiva.com/28671/731857-28671493.pdf; ComponentLink9URL: https://datasheet.ciiva.com/6059/1676921-6059942.pdf; ComponentLink9Description: https://datasheet.ciiva.com/6059/1676921-6059942.pdf; ComponentLink10URL: https://datasheet.ciiva.com/14595/70258115-14595592.pdf; ComponentLink10Description: https://datasheet.ciiva.com/14595/70258115-14595592.pdf; ComponentLink11URL: https://datasheet.ciiva.com/30067/aba0000ce120-30067865.pdf; ComponentLink11Description: https://datasheet.ciiva.com/30067/aba0000ce120-30067865.pdf; ComponentLink12URL: https://datasheet.ciiva.com/46376/1676921-46376457.pdf; ComponentLink12Description: https://datasheet.ciiva.com/46376/1676921-46376457.pdf; ComponentLink13URL: https://datasheet.ciiva.com/14602/70258115-14602542.pdf; ComponentLink13Description: https://datasheet.ciiva.com/14602/70258115-14602542.pdf; ComponentLink14URL: https://datasheet.ciiva.com/11676/aba0000ce120-11676223.pdf; ComponentLink14Description: https://datasheet.ciiva.com/11676/aba0000ce120-11676223.pdf; ComponentLink15URL: https://datasheet.ciiva.com/43458/1676921-43458447.pdf; ComponentLink15Description: https://datasheet.ciiva.com/43458/1676921-43458447.pdf; ComponentLink16URL: https://datasheet.ciiva.com/48523/fk-eng-tds-48523919.pdf; ComponentLink16Description: https://datasheet.ciiva.com/48523/fk-eng-tds-48523919.pdf; Manufacturer Part Number: EEE-FK1J680UP
footprint CAP_ELEC_SIZE_F (Capacitor, polarized, aluminum can; 8.0x10mm DxH)
pins: 1, 2

## CAPE_100u_16V_THD
designator C?, comment 100µ
Capacitor THD Electrolytic 100uF 20% 16V Radial; Manufacturer: Panasonic - ECG; Manufacturer Part Number: ECA-1CM101; Material: Aluminum Electrolytic; SCDType: spec; Package / Case: Radial - Through hole; Ratings: 16V; Tolerance: ±20%; Supplier 1: Digi-Key; Supplier Part Number 1: P5138-ND; Value: 100µ
footprint CAPAE200P550X1200_FLAT2
pins: 1, 2

## CAPE_100u_35V_SMD
designator C?, comment value 100µ  (hidden comment: EEE-FP1V101AP)
Capacitor SMD Alum Elec 100uF 20% 35V; Ratings: 35V; 105°C; Material: Al; SCDType: undef; Package / Case: Radial - Surface Mount; Tolerance: ±20%; Supplier 1: Digi-Key; Supplier Part Number 1: PCE4442CT-ND
footprint CAP_ELEC_Size E (Capacitor, polarized, aluminum can; 6.20mm L X 8mm D)
pins: 1, 2

## CAPE_120u_450V_THD
designator C?, comment 120u
Aluminum Electrolytic Capacitors Radial, Can - Snap-In 2000 Hrs @ 85°C; Manufacturer: United Chemi-Con; Manufacturer Part Number: ESMR451VSN121MP25S; Tolerance: ±20%; Polarization: Polar; Ripple Current - Low Frequency: 1.12A @ 120Hz; Ripple Current - High Frequency: 1.6016A @ 50kHz; Supplier 1: Digi-Key; Supplier Part Number 1: 565-4506-ND; RoHS: RoHS Compliant; Category: Capacitors; Stock 1: 399; Pricing 1: 1=3.84, 10=3.098, 100=2.4161, 500=1.79656, 1000=1.67265, 2500=1.6107, 5000=1.6048 (USD); Packaging: Bulk; Part Status: Active; ESR (Equivalent Series Resistance): -; Lifetime @ Temp.: 2000 Hrs @ 85°C; Operating Temperature: -25°C ~ 85°C; Applications: General Purpose; Lead Spacing: 0.394" (10.00mm); Size / Dimension: 0.866" Dia (22.00mm); Height - Seated (Max): 1.083" (27.50mm); Surface Mount Land Size: -; Mounting Type: Through Hole; Package / Case: Radial, Can - Snap-In; ComponentLink1URL: http://www.chemi-con.co.jp/cgi-bin/CAT_DB/SEARCH/cat_db_al.cgi?e=e&j=p&pdfname=smrlug; ComponentLink1Description: http://www.chemi-con.co.jp/cgi-bin/CAT_DB/SEARCH/cat_db_al.cgi?e=e&j=p&pdfname=smrlug; Value: 120u
footprint Capacitor 22mmx25mm
pins: 1, 2

## CAPE_220u_10V_SMD
designator C?, comment 220µ
Capacitor SMD Alum Elec 220uF 20% 10V; Manufacturer 1: Panasonic - ECG; Manufacturer Part Number 1: EEE-FK1A221P; Ratings: 10V; 105°C; Material: Al; SCDType: undef; Package / Case: Radial - Surface Mount; Tolerance: ±20%; Supplier 1: Digi-Key; Supplier Part Number 1: PCE3775CT-ND; Value: 220µ
footprint CAP_ELEC_Size E (Capacitor, polarized, aluminum can; 6.20mm L X 8mm D)
pins: 1, 2

## CAPE_220u_16V_THD
designator C?, comment 220µ
Capacitor THT Alum Elec 220uF 20% 16V; Manufacturer 1: Nichicon; Manufacturer Part Number 1: UPW1C221MPD; Ratings: 16V; 80°C; Material: Al; SCDType: undef; Manufacturer 2: Zhuhai Gree Xinyuan Electric; Manufacturer Part Number 2: CD11C-220-16V; Package / Case: radial 8.0D x 7.0H x 3.5mm pitch; Tolerance: ±20%; Supplier 1: Digi-Key; Supplier Part Number 1: 493-1783-ND; Value: 220µ
footprint CAPE3.5mm
pins: 1, 2

## CAPE_220u_16V_THD_2.5mmLS
designator C?, comment 220µ
Capacitor THT Alum Elec 220uF 20% 16V 2.5mmLS; Manufacturer 1: Nichicon; Manufacturer Part Number 1: UVR1C221MED; Ratings: 16V; 80°C; Material: Al; SCDType: undef; Package / Case: radial 6.3D x 11.0H x 2.5mm pitch; Tolerance: ±20%; Supplier 1: Digi-Key; Supplier Part Number 1: 493-1041-ND; Value: 220µ
footprint CAPE2.5mm_max6.8x12.5mm
pins: 1, 2

## CAPE_330u_63V_SMD
designator C?, comment value 330µ  Voltage Rating: 63V  (hidden comment: UUG1J331MNQ1MS)
330µF 63V Aluminum Electrolytic Capacitors Radial, Can - SMD  2000 Hrs @ 85°C; Manufacturer: Nichicon; Capacitance: 330uF; Tolerance: 20%; Ripple Current: 680mA; Leakage Current: 4uA; Life (Hours): 2000Hour; ComponentLink1URL: http://www.kemet.com/datasheets&T520D337M006ATE015; ComponentLink1Description: T520D Datasheet; Supplier 1: Digi-Key; Supplier Part Number 1: 493-7426-6-ND; Stock 1: 32; Pricing 1: 1=1.68, 10=1.325 (USD); Mount: Surface Mount; Case/Package: Radial; Min Operating Temperature: -40°C; Max Operating Temperature: 85°C; Package Quantity: 125; Packaging: Tape and Reel; Voltage Rating (DC): 63V; Termination: SMD/SMT; Length: 16.5mm; Height - Seated (Max): 0.689inch; ComponentLink2URL: https://datasheet.ciiva.com/5364/e-ug-16273-5364903.pdf; ComponentLink2Description: https://datasheet.ciiva.com/5364/e-ug-16273-5364903.pdf; ComponentLink3URL: https://datasheet.ciiva.com/6316/e-ug-6316172.pdf; ComponentLink3Description: https://datasheet.ciiva.com/6316/e-ug-6316172.pdf; ComponentLink4URL: https://datasheet.ciiva.com/6316/e-ug-6316173.pdf; ComponentLink4Description: https://datasheet.ciiva.com/6316/e-ug-6316173.pdf; ComponentLink5URL: https://datasheet.ciiva.com/6316/e-ug-6316174.pdf; ComponentLink5Description: https://datasheet.ciiva.com/6316/e-ug-6316174.pdf; Manufacturer Part Number: UUG1J331MNQ1MS
footprint CAPAE173171X175N (Aluminum Electrolytic Capacitor, Body 17.10x17.10x17.50mm, IPC Medium Density)
pins: 1, 2

## CAPE_470u_16V_THT
designator C?, comment 470µ
Capacitor THT Alum Elec 470uF 20% 16V; Manufacturer 1: NICHICON; Manufacturer Part Number 1: UHM1C471MPD6; Ratings: 16V; 105°C; Material: Al Electrolytic; SCDType: undef; Package / Case: Radial; Tolerance: ±20%; Supplier 1: Newark; Supplier Part Number 1: 54K8151; Manufacturer 2: JD; Manufacturer Part Number 2: GT470UF16V_10x12mm; Value: 470µ
footprint CAPE10.0MM_Rad_10x14mm (10mm Pitch Radial Capacitor 10x14mm DxH)
pins: 1, 2

## CAPF_15n_1210_PPS_50V
designator C?, comment value 15n  Tolerance: ±2%  (hidden comment: Polyphenylene Sulphide (PPS))
Capacitor SMD PPS Film 15nF 2% 50V 1210; Manufacturer 1: Panasonic - ECG; Manufacturer Part Number 1: ECH-U1H153GX5; Ratings: 50 V; PPS Film; SCDType: spec; Package / Case: 1210 (3225 Metric); Material: Polyphenylene Sulphide (PPS); Supplier 1: Digi-Key; Supplier Part Number 1: PCF1310CT-ND; Voltage Rating - DC: 50V; Operating Temperature: -55°C ~ 125°C; Mounting Type: Surface Mount; ComponentLink1URL: http://industrial.panasonic.com/www-cgi/jvcr13pz.cgi?E+PZ+3+ABD0013+ECHU1H153GX5+7+WW; ComponentLink1Description: http://industrial.panasonic.com/www-cgi/jvcr13pz.cgi?E+PZ+3+ABD0013+ECHU1H153GX5+7+WW; Height - Seated (Max): 0.051" (1.30mm)
footprint CAPC3225X220N (Chip Capacitor, Body 3.2x2.5mm, 1210, IPC Medium Density)
pins: 1, 2

## CAPF_120n_2416_PPS_50V
designator C?, comment value 120n  Tolerance: ±2%  (hidden comment: Polyphenylene Sulphide (PPS))
Capacitor SMD PPS Film 120nF 2% 50V 2416; Manufacturer 1: Panasonic - ECG; Manufacturer Part Number 1: ECH-U1H124GX9; Ratings: 50 V; PPS Film; SCDType: spec; Package / Case: 2416 (6041 Metric); Supplier 1: Digi-Key; Supplier Part Number 1: PCF1553CT-ND; Material: Polyphenylene Sulphide (PPS)
footprint CAPC6041X210N (Stacked film capacitor, Body 6.0x4.1mm, 2416, IPC Nominal settings)
pins: 1, 2

## CAPMF_1u_420V_MK
designator C?, comment value 1u  (hidden comment: R71MI4100AA30K)
1µF Film Capacitor 220V 420V Polypropylene (PP), Metallized Radial; Manufacturer: KEMET; Tolerance: ±10%; Supplier 1: Digi-Key; Supplier Part Number 1: 399-13454-ND; RoHS: RoHS Compliant; Category: Capacitors; Stock 1: 1245; Pricing 1: 1=1.04, 10=0.793, 100=0.5673, 500=0.4392, 1000=0.3782, 2500=0.3538, 5000=0.3355 (USD); Packaging: Bulk; Part Status: Active; Voltage Rating - AC: 220V; Voltage Rating - DC: 420V; Dielectric Material: Polypropylene (PP), Metallized; Operating Temperature: -40°C ~ 110°C; Mounting Type: Through Hole; Package / Case: Radial; Size / Dimension: 0.709" L x 0.394" W (18.00mm x 10.00mm); Height - Seated (Max): 0.630" (16.00mm); Termination: PC Pins; Lead Spacing: 0.591" (15.00mm); Applications: High Frequency, Switching; High Pulse, DV/DT; Power Factor Correction (PFC); Features: -; ComponentLink1URL: https://search.kemet.com/component-edge/download/datasheet/R71MI4100AA30K.pdf; ComponentLink1Description: https://search.kemet.com/component-edge/download/datasheet/R71MI4100AA30K.pdf; Manufacturer Part Number: R71MI4100AA30K
footprint R71MI4100AA30K (1µF Film Capacitor 220V 420V Polypropylene (PP), Metallized Radial)
pins: 1, 2

## CAPMF_1u_630V_MK
designator C?, comment value 1u  (hidden comment: R463N410050N1K)
Film Capacitor 310V 630V Polypropylene (PP), Metallized Radial; Manufacturer: KEMET; Tolerance: ±10%; Supplier 1: Digi-Key; Supplier Part Number 1: 399-12693-ND; RoHS: RoHS Compliant; Category: Capacitors; Stock 1: 906; Pricing 1: 1=0.94, 10=0.711, 100=0.5089, 500=0.39402, 1000=0.3393, 2500=0.3174, 5000=0.30099 (USD); Packaging: Bulk; Part Status: Active; Voltage Rating - AC: 310V; Voltage Rating - DC: 630V; Dielectric Material: Polypropylene (PP), Metallized; ESR (Equivalent Series Resistance): -; Operating Temperature: -40°C ~ 110°C; Mounting Type: Through Hole; Package / Case: Radial; Size / Dimension: 1.043" L x 0.433" W (26.50mm x 11.00mm); Height - Seated (Max): 0.791" (20.10mm); Termination: PC Pins; Lead Spacing: 0.886" (22.50mm); Applications: EMI, RFI Suppression; Features: X2 Safety Rated; ComponentLink1URL: http://www.kemet.com/docfinder?Partnumber=R463N410050N1K; ComponentLink1Description: http://www.kemet.com/docfinder?Partnumber=R463N410050N1K; Manufacturer Part Number: R463N410050N1K
footprint R46
pins: 1, 2

## CAPMF_3n3_400V_MPET
designator C?, comment 3n3
Capacitor THD Metallized PET Film 3.3nF 10% 400V; Manufacturer 1: Wing Fu Technology; Manufacturer Part Number 1: CL21-332-K-400V-7.5; Material: Metallized Polyester; SCDType: spec; Package / Case: 10.5L x 6.0W x 9.0H x 7.5mm Pitch; Tolerance: ±10%; Ratings: 400V; Value: 3n3
footprint CAPMF5.0-7.5mm_SL (Capacitor, THT, Metallized Polyester Film)
pins: 1, 2

## CAPMF_3n9_400V_MPET
designator C?, comment 3n9
Capacitor THD Metallized PET Film 3.9nF 10% 400V; Manufacturer 1: Wing Fu Technology; Manufacturer Part Number 1: CL21-392-K-400V-7.5; Material: Metallized Polyester; SCDType: spec; Package / Case: 10.5L x 6.0W x 9.0H x 7.5mm Pitch; Tolerance: ±10%; Ratings: 400V; Value: 3n9
footprint CAPMF5.0-7.5mm_SL (Capacitor, THT, Metallized Polyester Film)
pins: 1, 2

## CAPMF_22n_250V_MK
designator C?, comment 22n
Capacitor THD MK Film 22nF 10% 250V; Manufacturer 1: Panasonic - ECG; Manufacturer Part Number 1: ECQ-E2223KF; Material: Metallized Polyester; SCDType: undef; Package / Case: 12.0L x 5.5T x 9.0H x 10.0mm Pitch; Tolerance: ±10%; Ratings: 250V; Supplier 1: Digi-Key; Supplier Part Number 1: EF2223-ND; Value: 22n
footprint CAPMF12.5x4.5x9.0x10mmLS (Capacitor, MF, Thru-Hole, Dipped Radial; Body 12.5 x 4.5 x 9.0 mm (WxTxH) Pin Spacing 10.0 mm (typ))
pins: 1, 2

## CAPMF_47n_250V_MPET_TH
designator C?, comment 47n
Capacitor THD Metallized PET Film 47nF 5% 250V; Manufacturer 1: EPCOS Inc; Manufacturer Part Number 1: B32529C3473J; Ratings: 250VDC; 160VAC; Material: Metallized Polyester; Dielectric Material: Polyester, Metallized; SCDType: source; Tolerance: ±5%; Supplier 1: Digi-Key; Supplier Part Number 1: 495-1190-ND; ESR (Equivalent Series Resistance): -; Operating Temperature: -55°C ~ 125°C; Size / Dimension: 0.284" L x 0.138" W (7.20mm x 3.50mm); Height - Seated (Max): 0.315" (8.00mm); ComponentLink1URL: http://www.epcos.com/inf/20/20/db/fc_2009/MKT_B32520_529.pdf; ComponentLink1Description: http://www.epcos.com/inf/20/20/db/fc_2009/MKT_B32520_529.pdf; Value: 47n
footprint CAPM50P720350X800_FLAT (Capacitor, THT, Metallized Polyester Film with 7.2x3.5x8.0mm LxTxH)
pins: 1, 2

## CAPMF_82n_250V_MK
designator C?, comment 82n
Capacitor THD MK Film 82nF 10% 250V; Manufacturer 1: Panasonic - ECG; Manufacturer Part Number 1: ECQ-E2823KF; Material: Metallized Polyester; SCDType: undef; Package / Case: 12.0L x 5.5T x 9.0H x 10.0mm Pitch; Tolerance: ±10%; Ratings: 250V; Supplier 1: Digi-Key; Supplier Part Number 1: EF2823-ND; Value: 82n
footprint CAPMF12.5x4.5x9.0x10mmLS (Capacitor, MF, Thru-Hole, Dipped Radial; Body 12.5 x 4.5 x 9.0 mm (WxTxH) Pin Spacing 10.0 mm (typ))
pins: 1, 2

## CAPMF_220n_63V
designator C?, comment 220n
Capacitor, THT, metallized polyester; Manufacturer 1: SunTan; Manufacturer Part Number 1: TS03-224J-63V-7.5; Tolerance: ±5%; Ratings: 63V; Material: Metallized Polyester; Epoxy Resin; SCDType: undef; Package / Case: 10.2L x 5.0W x 7.5mm Pitch; Value: 220n
footprint CAPMF7.5mm (Capacitor, THT, Metallized Polyester Film)
pins: 1, 2

## CAPMF_330n_TH_MPET_63VDC_10%
designator C?, comment 330n
Capacitor THD Metallized PET Film 330nF 10% 63VDC; Manufacturer 1: EPCOS Inc; Manufacturer Part Number 1: B32529C334K; Ratings: 63VDC; 40VAC; Material: Metallized Polyester; SCDType: source; Package / Case: Radial; Tolerance: ±10%; Operating Temperature: -55°C ~ 125°C; ComponentLink1URL: http://www.epcos.com/inf/20/20/db/fc_2009/MKT_B32520_529.pdf; ComponentLink1Description: http://www.epcos.com/inf/20/20/db/fc_2009/MKT_B32520_529.pdf; Supplier 1: Digi-Key; Supplier Part Number 1: 495-2548-ND; Height - Seated (Max): 6.50mm; Lead Spacing: 5.00mm; Size / Dimension: 7.20mm L x 3.00mm W max; Value: 330n
footprint CAPM50P720300X650_FLAT (Capacitor, THT, Metallized Polyester Film with 7.2x3.0x6.5mm LxTxH)
footprint CAPM50P720300X650_VERT (Capacitor, THT, Metallized Polyester Film with 7.2x3.0x6.5mm LxTxH)
pins: 1, 2

## CAPMF_330n_TH_MPET_100VDC_10%
designator C?, comment 330n
Capacitor THD Metallized PET Film 330nF 10% 100VDC; Manufacturer 1: EPCOS Inc; Manufacturer Part Number 1: B32529C1334J; Ratings: 100VDC; 63VAC; Material: Metallized Polyester; SCDType: undef; Package / Case: Radial; Tolerance: ±10%; Operating Temperature: -55°C ~ 125°C; ComponentLink1URL: http://www.epcos.com/inf/20/20/db/fc_2009/MKT_B32520_529.pdf; ComponentLink1Description: http://www.epcos.com/inf/20/20/db/fc_2009/MKT_B32520_529.pdf; Height - Seated (Max): 8.0mm; Lead Spacing: 5.00mm; Size / Dimension: 7.20mm L x 3.50mm T max; Supplier 1: Digi-Key; Supplier Part Number 1: 495-1158-ND; Value: 330n
footprint CAPM50P720350X800_FLAT (Capacitor, THT, Metallized Polyester Film with 7.2x3.5x8.0mm LxTxH)
pins: 1, 2

## CAPMF_470n_100V_MK
designator C?, comment 470n
Capacitor THD MK Film 470nF 10% 100V; Manufacturer 1: Panasonic - ECG; Manufacturer Part Number 1: ECQ-E1474KF; Material: Metallized Polyester; SCDType: undef; Package / Case: 12.5L x 4.5T x 9.0H x 10.0mm Pitch; Tolerance: ±10%; Ratings: 100V; Supplier 1: Digi-Key; Supplier Part Number 1: EF1474-ND; Value: 470n
footprint CAPR7.62-6.8x2.5 (Capacitor, MF, Thru-Hole, Dipped Radial; Body 6.8 x 2.5 mm (WxT) Pin Spacing 7.62 mm (typ))
pins: 1, 2

## CAPMKP_6n8_1kV_P10.0mm
designator C?, comment 6n8
Capacitor THT metallized polypropylene 6.8nF 5% 1kV 10.0mm pitch; Manufacturer 1: EPCOS Inc; Manufacturer Part Number 1: B32671L0682J000; Material: Metallized Polypropylene Film; SCDType: source/; Package / Case: 13.0x5.0x11.0x10.0mm LWHP; Tolerance: ±5%; Ratings: 1kV; Supplier 1: Digi-Key; Supplier Part Number 1: 495-3200-ND; Value: 6n8
footprint CAPMF13.0x5.0x11.0x10.0mm LxWxHxP (Capacitor, THT, Metallized Polypropylene Film, 10mm lead pitch)
pins: 1, 2

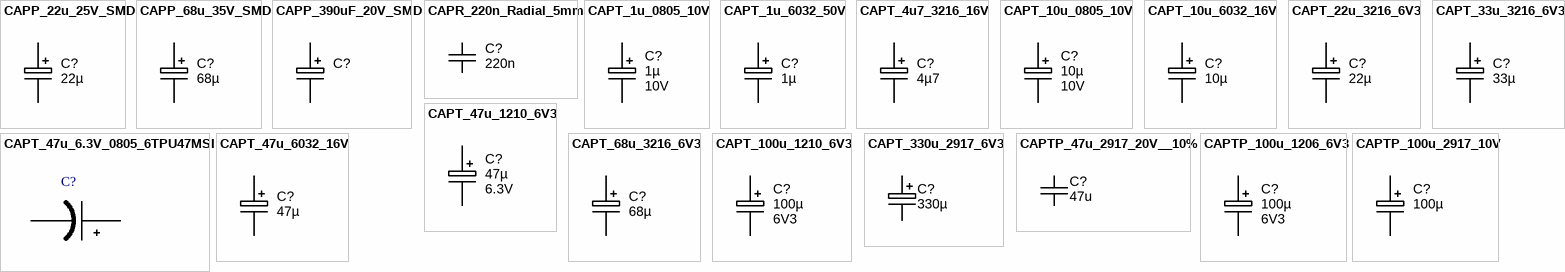
[diagram p3: symbols CAPP_22u_25V_SMD to CAPTP_100u_2917_10V]

## CAPP_22u_25V_SMD
designator C?, comment value 22µ  (hidden comment: APXG250ARA220ME61G)
CAP ALUM POLY 22UF 20% 25V SMD; Ratings: 35V; 105°C; Tolerance: ±20%; Supplier 1: Digi-Key; Supplier Part Number 1: 565-4535-1-ND
footprint CAP_POLY_APX_E61
pins: 1, 2